# EAGLE library part SPARKFUN-CONNECTORS_M05X2 (library rose)
Header 5x2 Standard 10-pin dual row 0.1" header. Commonly used with AVR-ISP. Use with Spark Fun Electronics SKU: PRT-00778
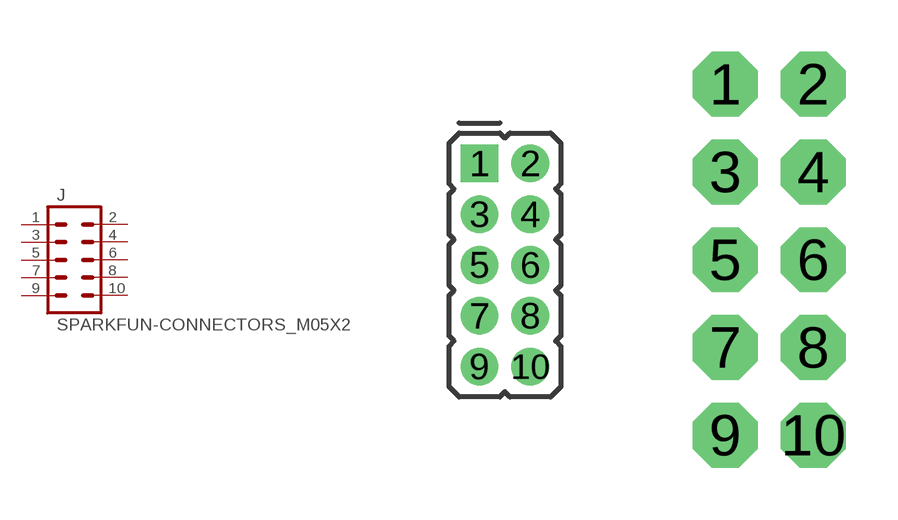
[diagram p7: symbol with the pads of SPARKFUN-CONNECTORS_2X5_PTH_SILK_.05; footprints SPARKFUN-CONNECTORS_2X5_PTH_SILK_.05, SPARKFUN-CONNECTORS_2X5_NOSILK]

Designator prefix J

## SPARKFUN-CONNECTORS_M05X20.05_IN_PTH_SILK  [SPARKFUN-CONNECTORS_2X5_PTH_SILK_.05]
1  1  pas
2  2  pas
3  3  pas
4  4  pas
5  5  pas
6  6  pas
7  7  pas
8  8  pas
9  9  pas
10  10  pas

## SPARKFUN-CONNECTORS_M05X2NO_SILK  [SPARKFUN-CONNECTORS_2X5_NOSILK]
Pads as for SPARKFUN-CONNECTORS_2X5_PTH_SILK_.05

## SPARKFUN-CONNECTORS_M05X2PTH  [SPARKFUN-CONNECTORS_AVR_ICSP]
Pads as for SPARKFUN-CONNECTORS_2X5_PTH_SILK_.05

## SPARKFUN-CONNECTORS_M05X2RA  [SPARKFUN-CONNECTORS_2X5-RA]
Pads as for SPARKFUN-CONNECTORS_2X5_PTH_SILK_.05

## SPARKFUN-CONNECTORS_M05X2RAF  [SPARKFUN-CONNECTORS_2X5-RAF]
Pads as for SPARKFUN-CONNECTORS_2X5_PTH_SILK_.05

## SPARKFUN-CONNECTORS_M05X2SHD  [SPARKFUN-CONNECTORS_2X5-SHROUDED]
Pads as for SPARKFUN-CONNECTORS_2X5_PTH_SILK_.05

## SPARKFUN-CONNECTORS_M05X2SHD-NS  [SPARKFUN-CONNECTORS_2X5-SHROUDED-NS]
Pads as for SPARKFUN-CONNECTORS_2X5_PTH_SILK_.05

## SPARKFUN-CONNECTORS_M05X2SHD_LOCK  [SPARKFUN-CONNECTORS_2X5-SHROUDED_LOCK]
Pads as for SPARKFUN-CONNECTORS_2X5_PTH_SILK_.05

## SPARKFUN-CONNECTORS_M05X2SHD_SMD  [SPARKFUN-CONNECTORS_2X5-SHROUDED_SMD]
Pads as for SPARKFUN-CONNECTORS_2X5_PTH_SILK_.05

## Footprint SPARKFUN-CONNECTORS_2X5_PTH_SILK_.05 (pad centres in mm)
drill 0.432 square: 1 0,6.35
drill 0.432: 2 1.27,6.35; 3 0,5.08; 4 1.27,5.08; 5 0,3.81; 6 1.27,3.81; 7 0,2.54; 8 1.27,2.54; 9 0,1.27; 10 1.27,1.27

## Footprint SPARKFUN-CONNECTORS_2X5_NOSILK (pad centres in mm)
drill 1.016 pad 1.88 octagon: 1 -1.27,5.08; 2 1.27,5.08; 3 -1.27,2.54; 4 1.27,2.54; 5 -1.27,0; 6 1.27,0; 7 -1.27,-2.54; 8 1.27,-2.54; 9 -1.27,-5.08; 10 1.27,-5.08

## Footprint SPARKFUN-CONNECTORS_AVR_ICSP (pad centres in mm)
PIN HEADER
drill 1.016 pad 1.88 octagon: 1 -1.27,5.08; 2 1.27,5.08; 3 -1.27,2.54; 4 1.27,2.54; 5 -1.27,0; 6 1.27,0; 7 -1.27,-2.54; 8 1.27,-2.54; 9 -1.27,-5.08; 10 1.27,-5.08

## Footprint SPARKFUN-CONNECTORS_2X5-RA (pad centres in mm)
drill 1.016 pad 1.88 octagon: 1 -1.27,5.08; 2 1.27,5.08; 3 -1.27,2.54; 4 1.27,2.54; 5 -1.27,0; 6 1.27,0; 7 -1.27,-2.54; 8 1.27,-2.54; 9 -1.27,-5.08; 10 1.27,-5.08

## Footprint SPARKFUN-CONNECTORS_2X5-RAF (pad centres in mm)
drill 1.016 pad 1.88 octagon: 1 -1.27,5.08; 2 1.27,5.08; 3 -1.27,2.54; 4 1.27,2.54; 5 -1.27,0; 6 1.27,0; 7 -1.27,-2.54; 8 1.27,-2.54; 9 -1.27,-5.08; 10 1.27,-5.08

## Footprint SPARKFUN-CONNECTORS_2X5-SHROUDED (pad centres in mm)
drill 1.016 pad 1.88 octagon: 1 -1.27,5.08; 2 1.27,5.08; 3 -1.27,2.54; 4 1.27,2.54; 5 -1.27,0; 6 1.27,0; 7 -1.27,-2.54; 8 1.27,-2.54; 9 -1.27,-5.08; 10 1.27,-5.08

## Footprint SPARKFUN-CONNECTORS_2X5-SHROUDED-NS (pad centres in mm)
drill 1.016 pad 1.88 octagon: 1 -1.27,5.08; 2 1.27,5.08; 3 -1.27,2.54; 4 1.27,2.54; 5 -1.27,0; 6 1.27,0; 7 -1.27,-2.54; 8 1.27,-2.54; 9 -1.27,-5.08; 10 1.27,-5.08

## Footprint SPARKFUN-CONNECTORS_2X5-SHROUDED_LOCK (pad centres in mm)
drill 1.016 pad 1.88 octagon: 1 -1.397,5.08; 2 1.397,5.08; 3 -1.397,2.54; 4 1.397,2.54; 5 -1.397,0; 6 1.397,0; 7 -1.397,-2.54; 8 1.397,-2.54; 9 -1.397,-5.08; 10 1.397,-5.08

## Footprint SPARKFUN-CONNECTORS_2X5-SHROUDED_SMD (pad centres in mm)
smd 4.15 x 1: 1 -2.794,5.08; 2 2.794,5.08; 3 -2.794,2.54; 4 2.794,2.54; 5 -2.794,0; 6 2.794,0; 7 -2.794,-2.54; 8 2.794,-2.54; 9 -2.794,-5.08; 10 2.794,-5.08